# Altium schematic symbol library SCH - ADC - TI ADS127L01IPBS.SCHLIB: 1 symbol
Pins are listed as number, name and electrical type; pins without a type are passive.

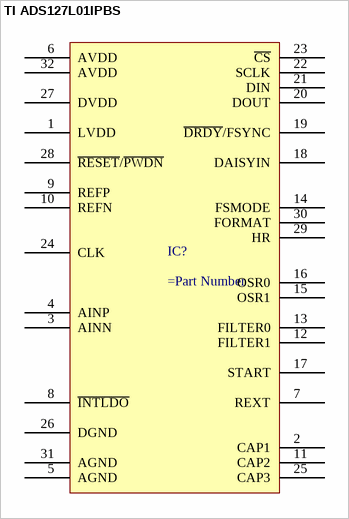
[diagram p0: symbol TI ADS127L01IPBS]

## TI ADS127L01IPBS
designator IC?
pins: 1 LVDD, 2 CAP1, 3 AINN, 4 AINP, 5 AGND, 6 AVDD, 7 REXT, 8 ~{INTLDO}, 9 REFP, 10 REFN, 11 CAP2, 12 FILTER1, 13 FILTER0, 14 FSMODE, 15 OSR1, 16 OSR0, 17 START, 18 DAISYIN, 19 ~{DRDY}/FSYNC, 20 DOUT, 21 DIN, 22 SCLK, 23 ~{CS}, 24 CLK, 25 CAP3, 26 DGND, 27 DVDD, 28 ~{RESET}/~{PWDN}, 29 HR, 30 FORMAT, 31 AGND, 32 AVDD